# EAGLE library part HX711 (library bear_altimeters_lib)
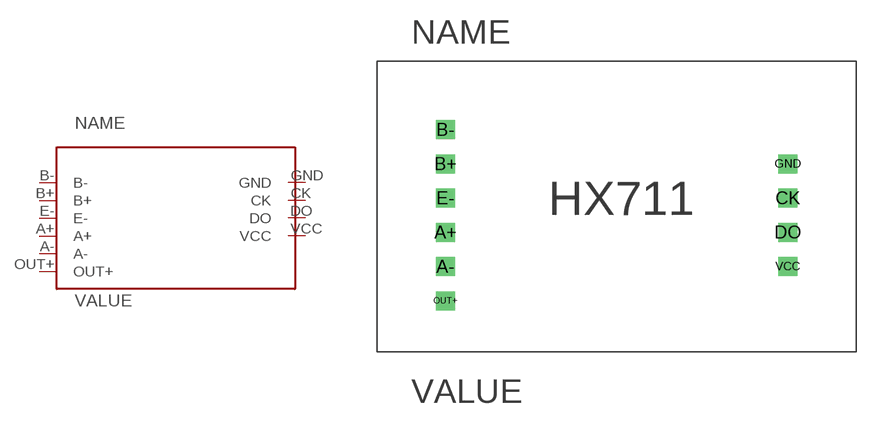
[diagram p8: symbol with the pads of HX711; footprint HX711]

Designator prefix -

## HX711A  [HX711]
A+  A+
A-  A-
B+  B+
B-  B-
CK  CK
DO  DO
E-  E-
GND  GND
OUT+  OUT+
VCC  VCC

## Footprint HX711 (pad centres in mm)
drill 0.9 square: A+ 8.89,21.59; A- 8.89,19.05; B+ 8.89,26.67; B- 8.89,29.21; CK 34.29,24.13; DO 34.29,21.59; E- 8.89,24.13; GND 34.29,26.67; OUT+ 8.89,16.51; VCC 34.29,19.05